# EAGLE library part TLC5916IDR (library josh)
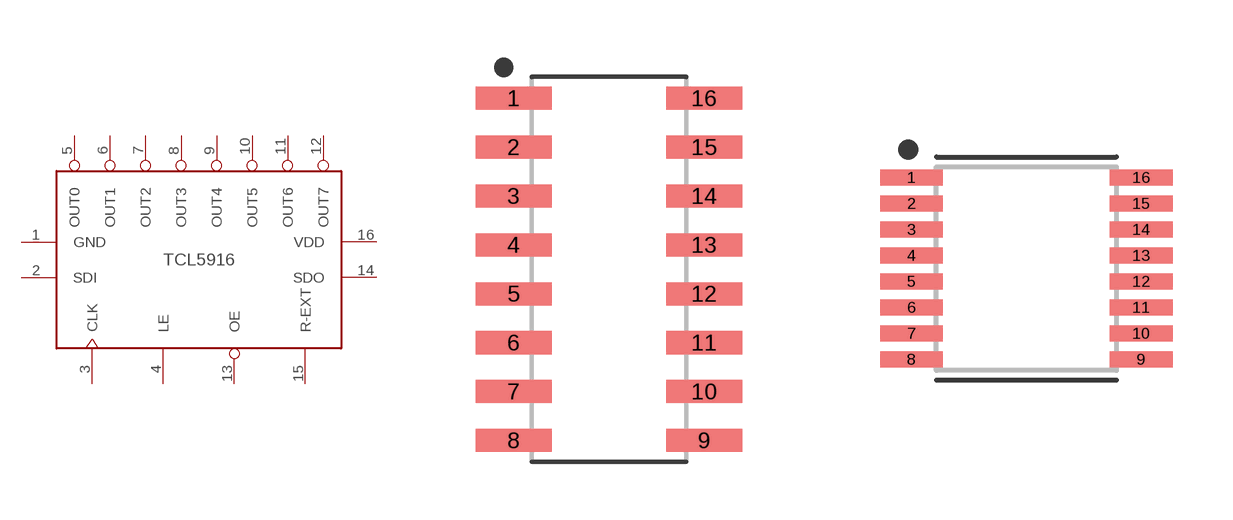
[diagram p4: symbol with the pads of SOIC127P600X175-16N; footprints SOIC127P600X175-16N, SOP65P640X120-16N]

Designator prefix -

## TLC5916IDRSOIC16  [SOIC127P600X175-16N]
1  GND  pwr
2  SDI  in
3  CLK  in
4  LE  in
5  OUT0
6  OUT1
7  OUT2
8  OUT3
9  OUT4
10  OUT5
11  OUT6
12  OUT7
13  OE  in
14  SDO  out
15  R-EXT
16  VDD  pwr

## TLC5916IDRTSSOP-16  [SOP65P640X120-16N]
Pads as for SOIC127P600X175-16N

## Footprint SOIC127P600X175-16N (pad centres in mm)
16-SOIC, 1.27 mm pitch, 6.00 mm span, 9.90 X 3.90 X 1.75 mm body 16-pin SOIC package with 1.27 mm pitch, 6.00 mm span with body size 9.90 X 3.90 X 1.75 mm
smd 1.968 x 0.599: 1 -2.473,4.445; 2 -2.473,3.175; 3 -2.473,1.905; 4 -2.473,0.635; 5 -2.473,-0.635; 6 -2.473,-1.905; 7 -2.473,-3.175; 8 -2.473,-4.445; 9 2.473,-4.445; 10 2.473,-3.175; 11 2.473,-1.905; 12 2.473,-0.635; 13 2.473,0.635; 14 2.473,1.905; 15 2.473,3.175; 16 2.473,4.445

## Footprint SOP65P640X120-16N (pad centres in mm)
16-SOP, 0.65 mm pitch, 6.40 mm span, 5.00 X 4.40 X 1.20 mm body 16-pin SOP package with 0.65 mm pitch, 6.40 mm span with body size 5.00 X 4.40 X 1.20 mm
smd 1.572 x 0.407: 1 -2.872,2.275; 2 -2.872,1.625; 3 -2.872,0.975; 4 -2.872,0.325; 5 -2.872,-0.325; 6 -2.872,-0.975; 7 -2.872,-1.625; 8 -2.872,-2.275; 9 2.872,-2.275; 10 2.872,-1.625; 11 2.872,-0.975; 12 2.872,-0.325; 13 2.872,0.325; 14 2.872,0.975; 15 2.872,1.625; 16 2.872,2.275